# Altium integrated library PZ-NRF24L01.IntLib: 6 symbols
Pins are listed as number, name and electrical type; pins without a type are passive.

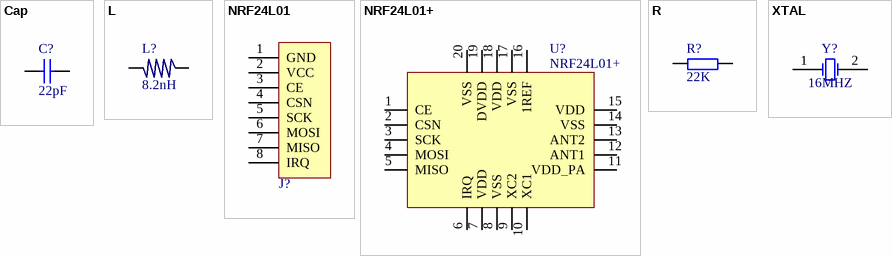
[diagram p0: symbols Cap to XTAL]

## Cap
designator C?, comment 22pF
Capacitor; Published: 8-Jun-2000; LatestRevisionDate: 17-Jul-2002; LatestRevisionNote: Re-released for DXP Platform.; PackageReference: RAD-0.3; Publisher: Altium Limited; Value: 22pf
simulation model CAP (Capacitor)
signal-integrity model Cap
footprint 0603
footprint 0603P
pins: 1, 2

## L
designator L?, comment 8.2nH
footprint L3A (L)
footprint L4.7
footprint L_USER (SELF_DEF)
footprint L10 (10mH)
footprint SMD7850
footprint 0805
footprint 1206
footprint L_SOPL (L_LARGE)
footprint L_CD43 (4mm*4mm)
footprint 0603P
footprint L_SOP4 (4mm*4mm*1.7mm)
pins: 1, 2

## NRF24L01
designator J?  (value not drawn)
footprint HDR2X4 (Connector; Header; 4x2 Position)
pins: 1 GND, 2 VCC, 3 CE, 4 CSN, 5 SCK, 6 MOSI, 7 MISO, 8 IRQ

## NRF24L01+
designator U?
footprint QFN-ML20_M
footprint QFN20-0.5MM
footprint QFN20-0.5MM
pins: 1 CE, 2 CSN, 3 SCK, 4 MOSI, 5 MISO, 6 IRQ, 7 VDD, 8 VSS, 9 XC2, 10 XC1, 11 VDD_PA, 12 ANT1, 13 ANT2, 14 VSS, 15 VDD, 16 1REF, 17 VSS, 18 VDD, 19 DVDD, 20 VSS

## R
designator R?, comment 22K
footprint 0805
footprint 0603P
footprint RL (10o/0.7uH)
footprint R16.0 (RX/1W)
footprint 1206
footprint 1210
footprint R20.0 (RX/2W)
footprint R10.16 (STD)
footprint RLN9 (13.5mm*5.1mm)
footprint 0603P
pins: 1, 2

## XTAL
designator Y?, comment 16MHZ
Crystal Oscillator; Published: 8-Jun-2000; LatestRevisionDate: 17-Jul-2002; LatestRevisionNote: Re-released for DXP Platform.; PackageReference: R38; Publisher: Altium Limited
footprint 晶振
simulation model XTAL (Spice Subcircuit)
pins: 1 OSC1, 2 OSC2